# EAGLE library part DS3231M (library atmega328pb_tqfn)
DS3231M Real Time Clock. Accuracy +/-5ppm. Battery Backup. 2.3V to 5.5V.
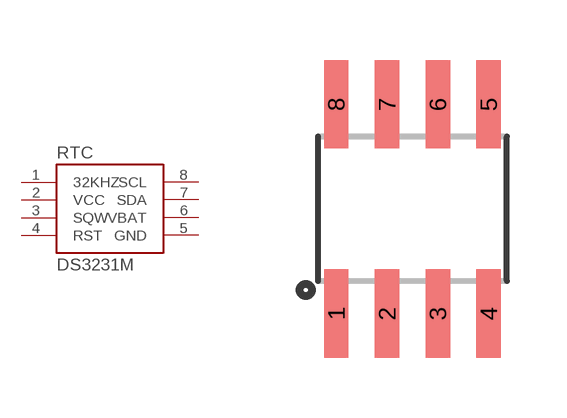
[diagram p126: symbol with the pads of SOIC8; footprint SOIC8]

Designator prefix RTC

## DS3231M (PROD_ID: IC-11985)  [SOIC8]
1  32KHZ  out
2  VCC  pwr
3  SQW  out
4  RST
5  GND  pwr
6  VBAT  pwr
7  SDA
8  SCL

## Footprint SOIC8 (pad centres in mm)
SOIC 8-Lead
smd 0.61 x 2.21: 1 -1.905,-2.616; 2 -0.635,-2.616; 3 0.635,-2.616; 4 1.905,-2.616; 5 1.905,2.616; 6 0.635,2.616; 7 -0.635,2.616; 8 -1.905,2.616